# EAGLE library part NUCLEO-G431RB_MORPHO_ONLY (library NUCLEO-G431RB)
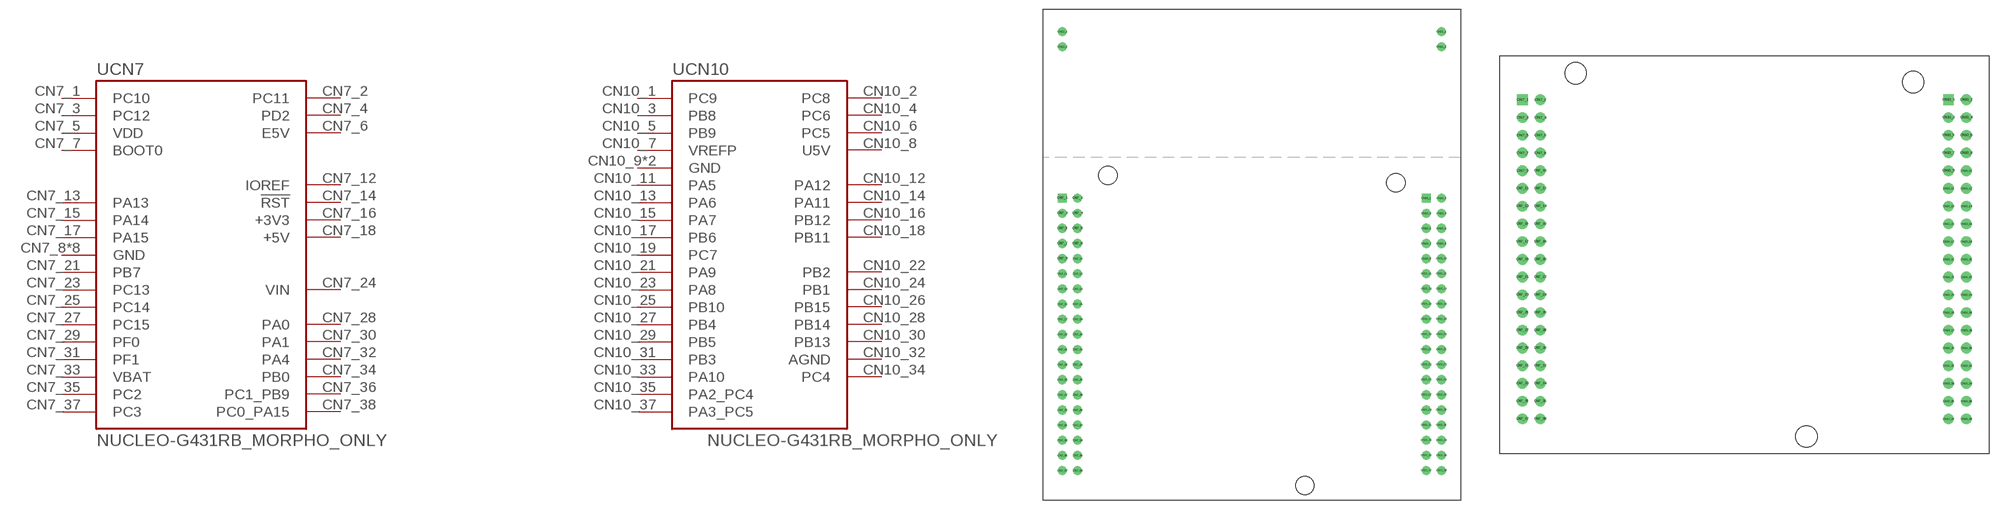
[diagram p0: symbol with the pads of MODULE_NUCLEO-G431RB_MORPHO_ONLY; footprints MODULE_NUCLEO-G431RB_MORPHO_ONLY, MODULE_NUCLEO-G431RB_MORPHO_ONLY_MINIMAL]

Designator prefix U; gates CN7=NUCLEO-NUCLEO-G431RB_CN7 CN10=NUCLEO-NUCLEO-G431RB_CN10

## NUCLEO-G431RB_MORPHO_ONLYMORPHO_ONLY  [MODULE_NUCLEO-G431RB_MORPHO_ONLY]
CN7_1  CN7:PC10  pas
CN7_2  CN7:PC11  pas
CN7_3  CN7:PC12  pas
CN7_4  CN7:PD2  pas
CN7_5  CN7:VDD  pas
CN7_6  CN7:E5V  pas
CN7_7  CN7:BOOT0  pas
CN7_8  CN7:GND  pas
CN7_12  CN7:IOREF  pas
CN7_13  CN7:PA13  pas
CN7_14  CN7:!RST  pas
CN7_15  CN7:PA14  pas
CN7_16  CN7:+3V3  pas
CN7_17  CN7:PA15  pas
CN7_18  CN7:+5V  pas
CN7_19  CN7:GND  pas
CN7_20  CN7:GND  pas
CN7_21  CN7:PB7  pas
CN7_22  CN7:GND  pas
CN7_23  CN7:PC13  pas
CN7_24  CN7:VIN  pas
CN7_25  CN7:PC14  pas
CN7_27  CN7:PC15  pas
CN7_28  CN7:PA0  pas
CN7_29  CN7:PF0  pas
CN7_30  CN7:PA1  pas
CN7_31  CN7:PF1  pas
CN7_32  CN7:PA4  pas
CN7_33  CN7:VBAT  pas
CN7_34  CN7:PB0  pas
CN7_35  CN7:PC2  pas
CN7_36  CN7:PC1_PB9  pas
CN7_37  CN7:PC3  pas
CN7_38  CN7:PC0_PA15  pas
CN10_1  CN10:PC9  pas
CN10_2  CN10:PC8  pas
CN10_3  CN10:PB8  pas
CN10_4  CN10:PC6  pas
CN10_5  CN10:PB9  pas
CN10_6  CN10:PC5  pas
CN10_7  CN10:VREFP  pas
CN10_8  CN10:U5V  pas
CN10_9  CN10:GND  pas
CN10_11  CN10:PA5  pas
CN10_12  CN10:PA12  pas
CN10_13  CN10:PA6  pas
CN10_14  CN10:PA11  pas
CN10_15  CN10:PA7  pas
CN10_16  CN10:PB12  pas
CN10_17  CN10:PB6  pas
CN10_18  CN10:PB11  pas
CN10_19  CN10:PC7  pas
CN10_20  CN10:GND  pas
CN10_21  CN10:PA9  pas
CN10_22  CN10:PB2  pas
CN10_23  CN10:PA8  pas
CN10_24  CN10:PB1  pas
CN10_25  CN10:PB10  pas
CN10_26  CN10:PB15  pas
CN10_27  CN10:PB4  pas
CN10_28  CN10:PB14  pas
CN10_29  CN10:PB5  pas
CN10_30  CN10:PB13  pas
CN10_31  CN10:PB3  pas
CN10_32  CN10:AGND  pas
CN10_33  CN10:PA10  pas
CN10_34  CN10:PC4  pas
CN10_35  CN10:PA2_PC4  pas
CN10_37  CN10:PA3_PC5  pas
CN11_1  CN7:GND  pas
CN11_2  CN7:GND  pas
CN12_1  CN7:GND  pas
CN12_2  CN7:GND  pas

## NUCLEO-G431RB_MORPHO_ONLY  [MODULE_NUCLEO-G431RB_MORPHO_ONLY_MINIMAL]
CN7_1  CN7:PC10  pas
CN7_2  CN7:PC11  pas
CN7_3  CN7:PC12  pas
CN7_4  CN7:PD2  pas
CN7_5  CN7:VDD  pas
CN7_6  CN7:E5V  pas
CN7_7  CN7:BOOT0  pas
CN7_8  CN7:GND  pas
CN7_12  CN7:IOREF  pas
CN7_13  CN7:PA13  pas
CN7_14  CN7:!RST  pas
CN7_15  CN7:PA14  pas
CN7_16  CN7:+3V3  pas
CN7_17  CN7:PA15  pas
CN7_18  CN7:+5V  pas
CN7_19  CN7:GND  pas
CN7_20  CN7:GND  pas
CN7_21  CN7:PB7  pas
CN7_22  CN7:GND  pas
CN7_23  CN7:PC13  pas
CN7_24  CN7:VIN  pas
CN7_25  CN7:PC14  pas
CN7_27  CN7:PC15  pas
CN7_28  CN7:PA0  pas
CN7_29  CN7:PF0  pas
CN7_30  CN7:PA1  pas
CN7_31  CN7:PF1  pas
CN7_32  CN7:PA4  pas
CN7_33  CN7:VBAT  pas
CN7_34  CN7:PB0  pas
CN7_35  CN7:PC2  pas
CN7_36  CN7:PC1_PB9  pas
CN7_37  CN7:PC3  pas
CN7_38  CN7:PC0_PA15  pas
CN10_1  CN10:PC9  pas
CN10_2  CN10:PC8  pas
CN10_3  CN10:PB8  pas
CN10_4  CN10:PC6  pas
CN10_5  CN10:PB9  pas
CN10_6  CN10:PC5  pas
CN10_7  CN10:VREFP  pas
CN10_8  CN10:U5V  pas
CN10_9  CN10:GND  pas
CN10_11  CN10:PA5  pas
CN10_12  CN10:PA12  pas
CN10_13  CN10:PA6  pas
CN10_14  CN10:PA11  pas
CN10_15  CN10:PA7  pas
CN10_16  CN10:PB12  pas
CN10_17  CN10:PB6  pas
CN10_18  CN10:PB11  pas
CN10_19  CN10:PC7  pas
CN10_20  CN10:GND  pas
CN10_21  CN10:PA9  pas
CN10_22  CN10:PB2  pas
CN10_23  CN10:PA8  pas
CN10_24  CN10:PB1  pas
CN10_25  CN10:PB10  pas
CN10_26  CN10:PB15  pas
CN10_27  CN10:PB4  pas
CN10_28  CN10:PB14  pas
CN10_29  CN10:PB5  pas
CN10_30  CN10:PB13  pas
CN10_31  CN10:PB3  pas
CN10_32  CN10:AGND  pas
CN10_33  CN10:PA10  pas
CN10_34  CN10:PC4  pas
CN10_35  CN10:PA2_PC4  pas
CN10_37  CN10:PA3_PC5  pas

## NUCLEO-G431RB_MORPHO_ONLYSUBMINIMAL  [MODULE_NUCLEO-G431RB_MORPHO_ONLY_SUBMINIMAL]
Pads as for MODULE_NUCLEO-G431RB_MORPHO_ONLY_MINIMAL

## Footprint MODULE_NUCLEO-G431RB_MORPHO_ONLY (pad centres in mm)
drill 1 square: CN7_1 -31.75,9.51; CN10_1 29.21,9.51
drill 1: CN7_2 -29.21,9.51; CN7_3 -31.75,6.97; CN7_4 -29.21,6.97; CN7_5 -31.75,4.43; CN7_6 -29.21,4.43; CN7_7 -31.75,1.89; CN7_8 -29.21,1.89; CN7_9 -31.75,-0.65; CN7_10 -29.21,-0.65; CN7_11 -31.75,-3.19; CN7_12 -29.21,-3.19; CN7_13 -31.75,-5.73; CN7_14 -29.21,-5.73; CN7_15 -31.75,-8.27; CN7_16 -29.21,-8.27; CN7_17 -31.75,-10.81; CN7_18 -29.21,-10.81; CN7_19 -31.75,-13.35; CN7_20 -29.21,-13.35; CN7_21 -31.75,-15.89; CN7_22 -29.21,-15.89; CN7_23 -31.75,-18.43; CN7_24 -29.21,-18.43; CN7_25 -31.75,-20.97; CN7_26 -29.21,-20.97; CN7_27 -31.75,-23.51; CN7_28 -29.21,-23.51; CN7_29 -31.75,-26.05; CN7_30 -29.21,-26.05; CN7_31 -31.75,-28.59; CN7_32 -29.21,-28.59; CN7_33 -31.75,-31.13; CN7_34 -29.21,-31.13; CN7_35 -31.75,-33.67; CN7_36 -29.21,-33.67; CN7_37 -31.75,-36.21; CN7_38 -29.21,-36.21; CN10_2 31.75,9.51; CN10_3 29.21,6.97; CN10_4 31.75,6.97; CN10_5 29.21,4.43; CN10_6 31.75,4.43; CN10_7 29.21,1.89; CN10_8 31.75,1.89; CN10_9 29.21,-0.65; CN10_10 31.75,-0.65; CN10_11 29.21,-3.19; CN10_12 31.75,-3.19; CN10_13 29.21,-5.73; CN10_14 31.75,-5.73; CN10_15 29.21,-8.27; CN10_16 31.75,-8.27; CN10_17 29.21,-10.81; CN10_18 31.75,-10.81; CN10_19 29.21,-13.35; CN10_20 31.75,-13.35; CN10_21 29.21,-15.89; CN10_22 31.75,-15.89; CN10_23 29.21,-18.43; CN10_24 31.75,-18.43; CN10_25 29.21,-20.97; CN10_26 31.75,-20.97; CN10_27 29.21,-23.51; CN10_28 31.75,-23.51; CN10_29 29.21,-26.05; CN10_30 31.75,-26.05; CN10_31 29.21,-28.59; CN10_32 31.75,-28.59; CN10_33 29.21,-31.13; CN10_34 31.75,-31.13; CN10_35 29.21,-33.67; CN10_36 31.75,-33.67; CN10_37 29.21,-36.21; CN10_38 31.75,-36.21; CN11_1 31.75,37.45; CN11_2 31.75,34.91; CN12_1 -31.75,37.45; CN12_2 -31.75,34.91
hole 3.05 at 24.13,12.05
hole 3.05 at -24.13,13.32
hole 3.05 at 8.89,-38.75

## Footprint MODULE_NUCLEO-G431RB_MORPHO_ONLY_MINIMAL (pad centres in mm)
drill 1 square: CN7_1 -31.75,9.51; CN10_1 29.21,9.51
drill 1: CN7_2 -29.21,9.51; CN7_3 -31.75,6.97; CN7_4 -29.21,6.97; CN7_5 -31.75,4.43; CN7_6 -29.21,4.43; CN7_7 -31.75,1.89; CN7_8 -29.21,1.89; CN7_9 -31.75,-0.65; CN7_10 -29.21,-0.65; CN7_11 -31.75,-3.19; CN7_12 -29.21,-3.19; CN7_13 -31.75,-5.73; CN7_14 -29.21,-5.73; CN7_15 -31.75,-8.27; CN7_16 -29.21,-8.27; CN7_17 -31.75,-10.81; CN7_18 -29.21,-10.81; CN7_19 -31.75,-13.35; CN7_20 -29.21,-13.35; CN7_21 -31.75,-15.89; CN7_22 -29.21,-15.89; CN7_23 -31.75,-18.43; CN7_24 -29.21,-18.43; CN7_25 -31.75,-20.97; CN7_26 -29.21,-20.97; CN7_27 -31.75,-23.51; CN7_28 -29.21,-23.51; CN7_29 -31.75,-26.05; CN7_30 -29.21,-26.05; CN7_31 -31.75,-28.59; CN7_32 -29.21,-28.59; CN7_33 -31.75,-31.13; CN7_34 -29.21,-31.13; CN7_35 -31.75,-33.67; CN7_36 -29.21,-33.67; CN7_37 -31.75,-36.21; CN7_38 -29.21,-36.21; CN10_2 31.75,9.51; CN10_3 29.21,6.97; CN10_4 31.75,6.97; CN10_5 29.21,4.43; CN10_6 31.75,4.43; CN10_7 29.21,1.89; CN10_8 31.75,1.89; CN10_9 29.21,-0.65; CN10_10 31.75,-0.65; CN10_11 29.21,-3.19; CN10_12 31.75,-3.19; CN10_13 29.21,-5.73; CN10_14 31.75,-5.73; CN10_15 29.21,-8.27; CN10_16 31.75,-8.27; CN10_17 29.21,-10.81; CN10_18 31.75,-10.81; CN10_19 29.21,-13.35; CN10_20 31.75,-13.35; CN10_21 29.21,-15.89; CN10_22 31.75,-15.89; CN10_23 29.21,-18.43; CN10_24 31.75,-18.43; CN10_25 29.21,-20.97; CN10_26 31.75,-20.97; CN10_27 29.21,-23.51; CN10_28 31.75,-23.51; CN10_29 29.21,-26.05; CN10_30 31.75,-26.05; CN10_31 29.21,-28.59; CN10_32 31.75,-28.59; CN10_33 29.21,-31.13; CN10_34 31.75,-31.13; CN10_35 29.21,-33.67; CN10_36 31.75,-33.67; CN10_37 29.21,-36.21; CN10_38 31.75,-36.21
hole 3.05 at 24.13,12.05
hole 3.05 at -24.13,13.32
hole 3.05 at 8.89,-38.75

## Footprint MODULE_NUCLEO-G431RB_MORPHO_ONLY_SUBMINIMAL (pad centres in mm)
drill 1 square: CN7_1 -30.48,22.21; CN10_1 30.48,22.21
drill 1: CN7_2 -27.94,22.21; CN7_3 -30.48,19.67; CN7_4 -27.94,19.67; CN7_5 -30.48,17.13; CN7_6 -27.94,17.13; CN7_7 -30.48,14.59; CN7_8 -27.94,14.59; CN7_9 -30.48,12.05; CN7_10 -27.94,12.05; CN7_11 -30.48,9.51; CN7_12 -27.94,9.51; CN7_13 -30.48,6.97; CN7_14 -27.94,6.97; CN7_15 -30.48,4.43; CN7_16 -27.94,4.43; CN7_17 -30.48,1.89; CN7_18 -27.94,1.89; CN7_19 -30.48,-0.65; CN7_20 -27.94,-0.65; CN7_21 -30.48,-3.19; CN7_22 -27.94,-3.19; CN7_23 -30.48,-5.73; CN7_24 -27.94,-5.73; CN7_25 -30.48,-8.27; CN7_26 -27.94,-8.27; CN7_27 -30.48,-10.81; CN7_28 -27.94,-10.81; CN7_29 -30.48,-13.35; CN7_30 -27.94,-13.35; CN7_31 -30.48,-15.89; CN7_32 -27.94,-15.89; CN7_33 -30.48,-18.43; CN7_34 -27.94,-18.43; CN7_35 -30.48,-20.97; CN7_36 -27.94,-20.97; CN7_37 -30.48,-23.51; CN7_38 -27.94,-23.51; CN10_2 33.02,22.21; CN10_3 30.48,19.67; CN10_4 33.02,19.67; CN10_5 30.48,17.13; CN10_6 33.02,17.13; CN10_7 30.48,14.59; CN10_8 33.02,14.59; CN10_9 30.48,12.05; CN10_10 33.02,12.05; CN10_11 30.48,9.51; CN10_12 33.02,9.51; CN10_13 30.48,6.97; CN10_14 33.02,6.97; CN10_15 30.48,4.43; CN10_16 33.02,4.43; CN10_17 30.48,1.89; CN10_18 33.02,1.89; CN10_19 30.48,-0.65; CN10_20 33.02,-0.65; CN10_21 30.48,-3.19; CN10_22 33.02,-3.19; CN10_23 30.48,-5.73; CN10_24 33.02,-5.73; CN10_25 30.48,-8.27; CN10_26 33.02,-8.27; CN10_27 30.48,-10.81; CN10_28 33.02,-10.81; CN10_29 30.48,-13.35; CN10_30 33.02,-13.35; CN10_31 30.48,-15.89; CN10_32 33.02,-15.89; CN10_33 30.48,-18.43; CN10_34 33.02,-18.43; CN10_35 30.48,-20.97; CN10_36 33.02,-20.97; CN10_37 30.48,-23.51; CN10_38 33.02,-23.51